# Altium footprint library Buttons.PcbLib: 37 footprints (part 2 of 3)
Each footprint in its own frame and in the unit in brackets; x right, y up, seen from the top. Pads: shape width x height; smd on the part's side, far side on the other; paste and mask are expansions set on the pad; w line width, h text height; cw(c..) or ccw(c..) is an arc to the next point about the centre after c.
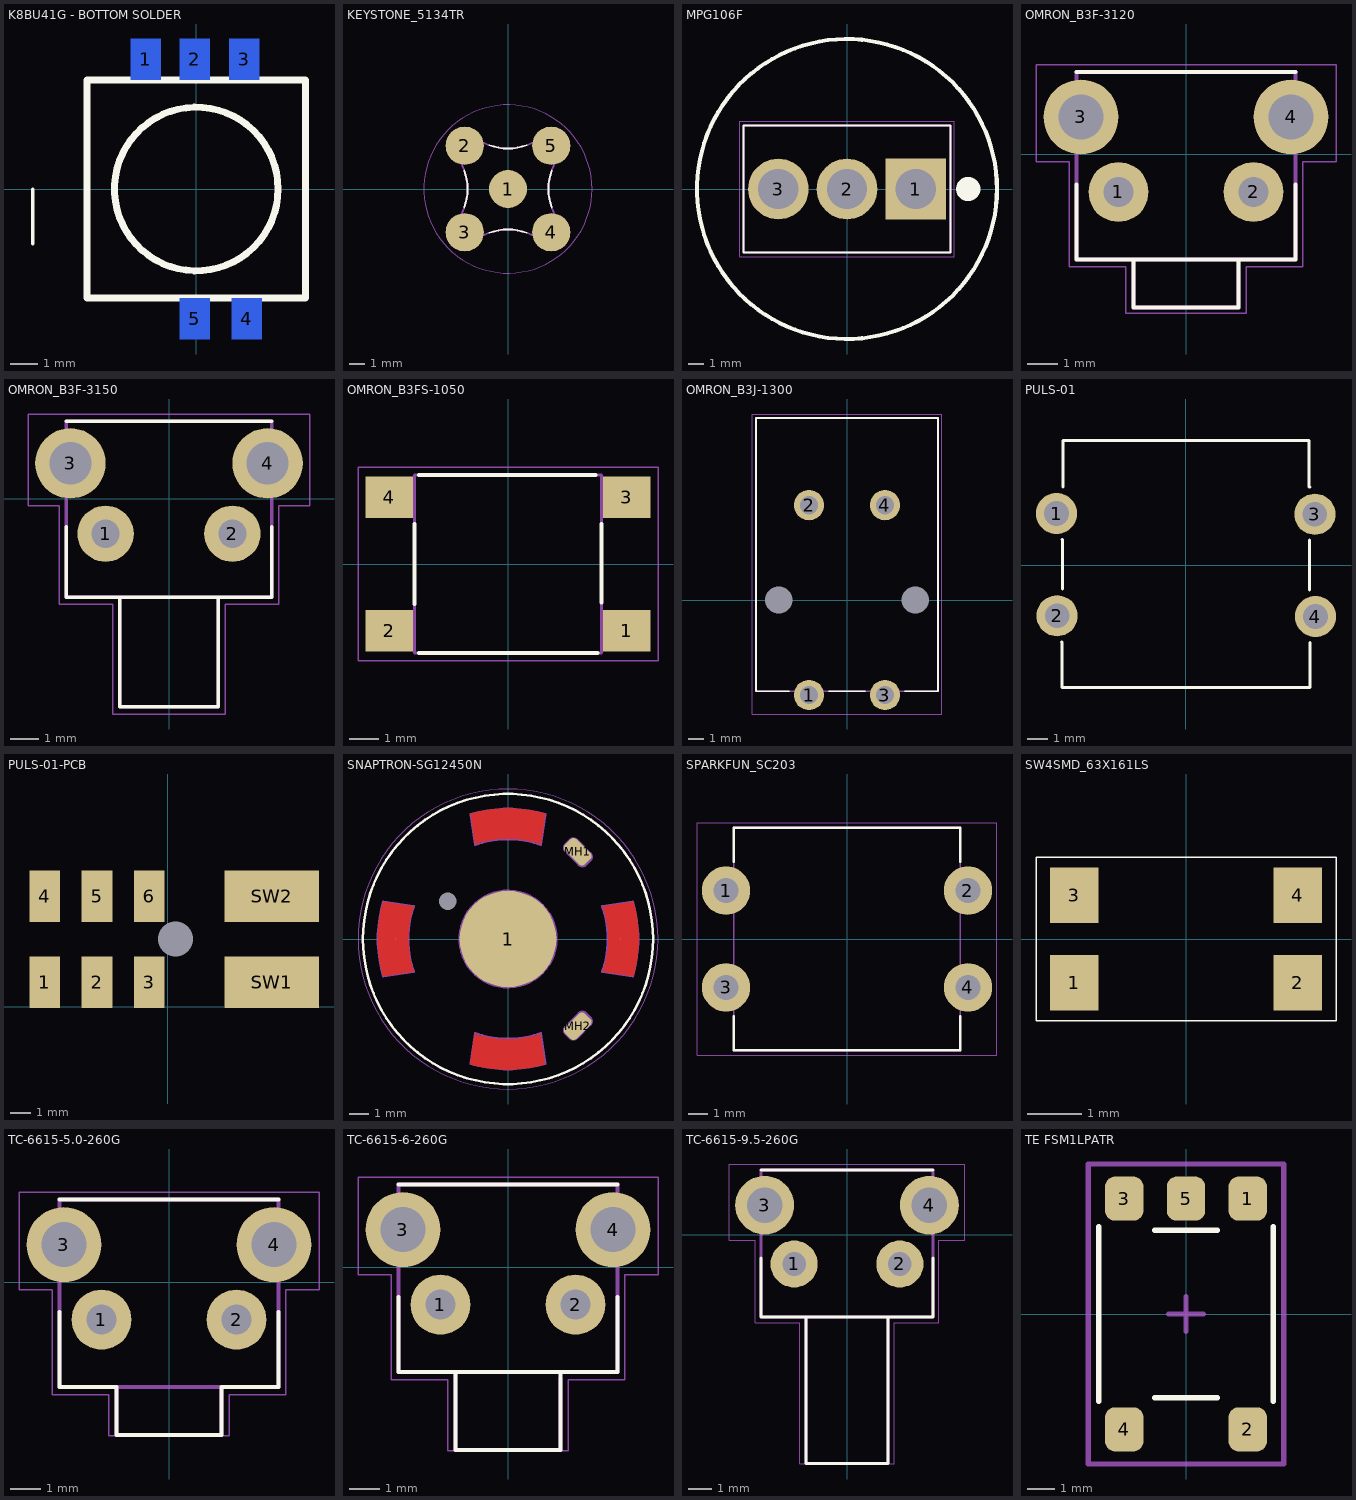
[diagram p1: the footprints below, top view; thin cyan lines are the x and y axes]

## K8BU41G - BOTTOM SOLDER [mm]
pads (5):
  rect 1.1x1.5 smd far side: 1(-1.85,4.75) 2(-0.05,4.75) 3(1.75,4.75) 4(1.85,-4.75) 5(-0.05,-4.75)
Top Overlay:
  circle w0.254: c0,0 r3
  lines w0.127: -6,-2 -6,0
  lines w0.254: -4,-4 -4,0 -4,4 4,4 4,-4 -4,-4
3D body: height 9.23, standoff -7.3, extent -4,-4 -4,-4
3D body: height 9.23, standoff -7.3, extent -1,-1 -1,-1
3D body "K8BU41GLFS.stp": height 4.19, standoff -1.92, extent -4.2,-5.408 4.2,5.408

## KEYSTONE_5134TR [mm] "SWITCH TACT SPST-NO 0.012A 24V, 7.00mm x 7.00mm"
pads (5):
  round 2.5 smd paste-2 mask+0.05: 1(0,0) 2(-2.828,2.828) 3(-2.828,-2.828) 4(2.828,-2.828) 5(2.828,2.828)
Top Overlay:
  lines w0.127: -2.859,-1.221 ccw(c-6.215,0) -2.859,1.221 ; -1.221,-2.859 cw(c0,-6.215) 1.221,-2.859 ; -1.221,2.859 ccw(c0,6.215) 1.221,2.859 ; 2.859,-1.221 cw(c6.215,0) 2.859,1.221
Mechanical 13:
  lines w0.127: -3.486,-2.344 ccw(c0.022,0.022) -2.344,-3.486 ; -3.486,2.344 cw(c0.022,-0.022) -2.344,3.486 ; -3.482,-2.301 ccw(c-6.224,0) -3.482,2.301 ; -2.301,-3.482 cw(c0,-6.224) 2.301,-3.482 ; -2.301,3.482 ccw(c0,6.224) 2.301,3.482 ; 2.344,-3.486 ccw(c-0.022,0.022) 3.486,-2.344 ; 2.344,3.486 cw(c-0.022,-0.022) 3.486,2.344 ; 3.482,-2.301 cw(c6.224,0) 3.482,2.301
Mechanical 15:
  circle w0.05: c0,0 r5.5
3D body "step_temp.STEP": height 0.51, standoff 0, extent -3.505,-3.505 3.505,3.505

## MPG106F [mil]
pads (3):
  rect 150x150 hole 100: 1(170,0)
  round 150 hole 100: 2(0,0) 3(-170,0)
Top Overlay:
  circle w30: c300,0 r15
  circle w10: c0,0 r371.21
  lines w5: -256,-157.5 -256,157.5 256,157.5 256,-157.5 -256,-157.5
Mechanical 4:
  circle w30: c172.05,0 r15
  circle w30: c172.05,0 r15
  lines w5: -256,-157.5 -256,157.5 ; -256,-157.5 256,-157.5 ; -256,-157.5 -256,157.5 ; -256,-157.5 256,-157.5 ; -256,157.5 256,157.5 ; -256,157.5 256,157.5 ; 256,-157.5 256,157.5 ; 256,-157.5 256,157.5
Mechanical 16:
  lines w1.97: -265.84,-167.34 265.84,-167.34 265.84,167.34 -265.84,167.34 -265.84,-167.34
3D body "c-5-1437567-0-d-3d.stp": height 1268.5, standoff -106.5, extent -355.5,-355.47 375.5,355.49

## OMRON_B3F-3120 [mm] "SWITCH TACTILE SPST-NO 0.05A 24V"
pads (4):
  round 2 hole 1: 1(-2.25,-1.25) 2(2.25,-1.25)
  round 2.5 hole 1.5: 3(-3.5,1.25) 4(3.5,1.25)
Top Overlay:
  lines w0.127: -3.65,-1 -3.65,-3.5 -1.75,-3.5 ; -3.65,2.75 3.65,2.75 ; 3.65,-1 3.65,-3.5 1.75,-3.5 ; -1.75,-3.5 1.75,-3.5 ; -1.75,-3.5 -1.75,-5.1 1.75,-5.1 1.75,-3.5
Mechanical 13:
  lines w0.127: -1.75,-3.5 1.75,-3.5 ; -1.75,-3.5 -3.65,-3.5 -3.65,2.75 3.65,2.75 3.65,-3.5 1.75,-3.5 ; -1.75,-3.5 -1.75,-5.1 1.75,-5.1 1.75,-3.5
Mechanical 15:
  lines w0.05: -5,-0.25 -3.9,-0.25 -3.9,-3.75 -2,-3.75 -2,-5.3 2,-5.3 2,-3.75 3.9,-3.75 3.9,-0.25 5,-0.25 5,3 -5,3 -5,-0.25
3D body "B3F_3120.step": height 7.4, standoff -3.5, extent -4.35,-5.1 4.35,2.75

## OMRON_B3F-3150 [mm] "SWITCH TACTILE SPST-NO 0.05A 24V"
pads (4):
  round 2 hole 1: 1(-2.25,-1.25) 2(2.25,-1.25)
  round 2.5 hole 1.5: 3(-3.5,1.25) 4(3.5,1.25)
Top Overlay:
  lines w0.127: -3.65,-1 -3.65,-3.5 -1.75,-3.5 ; -3.65,2.75 3.65,2.75 ; 3.65,-1 3.65,-3.5 1.75,-3.5 ; -1.75,-3.5 1.75,-3.5 ; -1.75,-3.5 -1.75,-7.4 1.75,-7.4 1.75,-3.5
Mechanical 13:
  lines w0.127: -1.75,-3.5 1.75,-3.5 ; -1.75,-3.5 -3.65,-3.5 -3.65,2.75 3.65,2.75 3.65,-3.5 1.75,-3.5 ; -1.75,-3.5 -1.75,-7.4 1.75,-7.4 1.75,-3.5
Mechanical 15:
  lines w0.05: -5,-0.25 -3.9,-0.25 -3.9,-3.75 -2,-3.75 -2,-7.65 2,-7.65 2,-3.75 3.9,-3.75 3.9,-0.25 5,-0.25 5,3 -5,3 -5,-0.25
3D body "b3f-3150.stp": height 7.5, standoff -3.4, extent -4.35,-7.4 4.35,2.75

## OMRON_B3FS-1050 [mm] "SWITCH TACTILE SPST-NO 0.05A 24V"
pads (4):
  rect 1.6x1.4 smd mask+0.05: 1(4,-2.25) 2(-4,-2.25) 3(4,2.25) 4(-4,2.25)
Top Overlay:
  lines w0.127: -3.15,-1.35 -3.15,1.35 ; -3,-3 3.025,-3 ; -3,3 2.95,3 ; 3.15,-1.3 3.15,1.35
Mechanical 1:
  lines w0.1: -3.15,-3 -3.15,3 3.15,3 3.15,-3 -3.15,-3
Mechanical 15:
  lines w0.05: -5.05,-3.25 -5.05,3.25 5.05,3.25 5.05,-3.25 -5.05,-3.25
3D body "b3fs-1050.stp": height -0.4, standoff -7.7, extent -4,-3.25 4,3.05

## OMRON_B3J-1300 [mm]
pads (6):
  round 2 hole 1.2 mask+0.14: 1(-2.5,-6.25) 2(-2.5,6.25) 3(2.5,-6.25) 4(2.5,6.25)
  round 0 hole 1.8 unplated mask+0.14: MH(-4.5,0) MH(4.5,0)
Top Overlay:
  lines w0.127: -3.8,-6 -6,-6 -6,12 6,12 6,-6 3.8,-6 ; -1.2,-6 1.2,-6
Mechanical 1:
  lines w0.1: -6,-6 6,-6 6,12 -6,12 -6,-6
Mechanical 15:
  lines w0.05: -6.25,-7.5 -6.25,12.25 6.25,12.25 6.25,-7.5 -6.25,-7.5
3D body "b3j-1300.stp": height 10.3, standoff -3.5, extent -6,-6.9 6,12

## PULS-01 [mm]
pads (4):
  round 2 hole 1.2: 1(-6.274,2.5) 2(-6.248,-2.464) 3(6.26,2.464) 4(6.286,-2.5)
Top Overlay:
  lines w0.15: -6.045,-3.734 -6.02,-3.734 -6.02,-5.944 6.02,-5.944 6.02,-3.759 ; -6.02,1.245 -5.994,1.245 -5.994,-1.168 ; -5.969,3.785 -5.969,6.045 5.969,6.045 5.969,3.785 6.02,3.785 ; 5.994,-1.219 5.994,1.219
3D body: height 2, standoff -4, extent -6.439,2.045 -6.058,2.934
3D body: height 2, standoff -4, extent -6.439,-2.908 -6.058,-2.019
3D body: height 2, standoff -4, extent 6.095,-2.944 6.476,-2.055
3D body: height 2, standoff -4, extent 6.095,2.009 6.476,2.898
3D body: height 12.3, standoff 6.6, extent -5.744,-5.747 5.756,5.747
3D body: height 8.08, standoff 6.6, extent -6.5,-6.5 6.5,6.5
3D body: height 7.5, standoff 0, extent -1.488,-1.497 1.5,1.497
3D body: height 7.5, standoff 5.8, extent -1.65,-1.647 1.65,1.647
3D body: height 4, standoff 3.5, extent -3.55,-3.547 3.55,3.547
3D body: height 3.5, standoff 0, extent -5.969,-5.969 5.969,6.096
3D body: height 3.6, standoff 0.1, extent -5.521,-5.619 5.533,5.619
3D body: height 3.8, standoff 0, extent 3.949,4.073 4.945,5.071
3D body: height 3.8, standoff 0, extent -4.814,4.073 -3.818,5.071
3D body: height 3.8, standoff 0, extent -4.814,-5.071 -3.818,-4.073
3D body: height 3.8, standoff 0, extent 3.949,-5.071 4.945,-4.073

## PULS-01-PCB [mil]
pads (9):
  rect 0x0 hole 66.93 square unplated: 0(15,130)
  rect 59.06x98.43 smd: 1(-235,47) 2(-135,47) 3(-35,47) 4(-235,212) 5(-135,212) 6(-35,212)
  rect 181.1x98.43 smd mask+5.51: SW1(199,47) SW2(199,212)
3D body "TARJETA SWITCH.step": height 740.37, standoff -62.5, extent -274,-385.87 300,255.87

## SNAPTRON-SG12450N [mm]
pads (8):
  round 4.93 smd paste-4.93 mask+4.8: 1(0,0)
  round 0.025 smd paste-100: 2(0,5.75) 3(5.75,0) 4(-0.025,-5.75) 5(-5.724,0)
  round 0 hole 0.89 unplated: 36(-3.075,1.925)
  rrect50% 1.43x0.81 smd rot 135 paste-2539.97: MH1(3.556,4.445)
  rrect50% 1.43x0.81 smd rot 45 paste-2539.97: MH2(3.556,-4.445)
Top Layer:
  region: -1.908,6.381 -1.664,4.839 -1.53,4.883 -1.258,4.961 -0.982,5.023 -0.704,5.07 -0.423,5.101 -0.141,5.117 0.141,5.117 0.423,5.101 0.704,5.07 0.982,5.023 1.258,4.961 1.53,4.883 1.664,4.839 1.908,6.381 1.753,6.427 1.44,6.505 1.124,6.567 0.805,6.614 0.484,6.645 0.161,6.661 -0.161,6.661 -0.484,6.645 -0.805,6.614 -1.124,6.567 -1.44,6.505 -1.753,6.427
  region: 6.381,1.908 4.839,1.664 4.883,1.53 4.961,1.258 5.023,0.982 5.07,0.704 5.101,0.423 5.117,0.141 5.117,-0.141 5.101,-0.423 5.07,-0.704 5.023,-0.982 4.961,-1.258 4.883,-1.53 4.839,-1.664 6.381,-1.908 6.427,-1.753 6.505,-1.44 6.567,-1.124 6.614,-0.805 6.645,-0.484 6.661,-0.161 6.661,0.161 6.645,0.484 6.614,0.805 6.567,1.124 6.505,1.44 6.427,1.753
  region: 1.883,-6.381 1.639,-4.839 1.505,-4.883 1.233,-4.961 0.957,-5.023 0.679,-5.07 0.398,-5.101 0.116,-5.117 -0.166,-5.117 -0.448,-5.101 -0.729,-5.07 -1.007,-5.023 -1.283,-4.961 -1.555,-4.883 -1.689,-4.839 -1.933,-6.381 -1.778,-6.427 -1.465,-6.505 -1.149,-6.567 -0.83,-6.614 -0.509,-6.645 -0.186,-6.661 0.136,-6.661 0.459,-6.645 0.78,-6.614 1.099,-6.567 1.415,-6.505 1.728,-6.427
  region: -6.354,-1.908 -4.813,-1.664 -4.857,-1.53 -4.934,-1.258 -4.996,-0.982 -5.043,-0.704 -5.074,-0.423 -5.09,-0.141 -5.09,0.141 -5.074,0.423 -5.043,0.704 -4.996,0.982 -4.934,1.258 -4.857,1.53 -4.813,1.664 -6.354,1.908 -6.401,1.753 -6.478,1.44 -6.541,1.124 -6.587,0.805 -6.619,0.484 -6.634,0.161 -6.634,-0.161 -6.619,-0.484 -6.587,-0.805 -6.541,-1.124 -6.478,-1.44 -6.401,-1.753
Top Overlay:
  circle w0.127: c0,0 r7.4
Top Paste:
  circle w0.28: c3.556,4.445 r0.14
  circle w0.28: c3.556,-4.445 r0.14
Mechanical 15:
  circle w0.05: c0,0 r7.65
Mechanical 16:
  circle w0.13: c3.556,4.445 r0.279
  circle w0.13: c3.556,-4.445 r0.279
  circle w0.13: c0,-1.714 r0.445
  circle w0.13: c0,0 r2.464
  lines w0.13: -6.354,-1.908 cw(c0,0) -6.354,1.908 -4.813,1.664 ccw(c0,0) -4.813,-1.664 -6.354,-1.908 ; -1.908,-6.354 ccw(c0,0) 1.908,-6.354 1.664,-4.813 cw(c0,0) -1.664,-4.813 -1.908,-6.354 ; -1.908,6.354 cw(c0,0) 1.908,6.354 1.664,4.813 ccw(c0,0) -1.664,4.813 -1.908,6.354 ; 2.941,-4.829 cw(c3.117,-4.652) 2.941,-4.476 3.621,-3.796 cw(c3.797,-3.972) 3.974,-3.796 4.193,-4.015 cw(c4.016,-4.191) 4.193,-4.367 3.512,-5.048 cw(c3.336,-4.871) 3.16,-5.048 2.941,-4.829 ; 2.941,4.476 cw(c3.117,4.652) 2.941,4.829 3.16,5.048 cw(c3.336,4.871) 3.512,5.048 4.193,4.367 cw(c4.016,4.191) 4.193,4.015 3.974,3.796 cw(c3.797,3.972) 3.621,3.796 2.941,4.476 ; 4.813,-1.664 ccw(c0,0) 4.813,1.664 6.354,1.908 cw(c0,0) 6.354,-1.908 4.813,-1.664
3D body "DOME-SG12450N.STEP": height 0.71, standoff 0, extent -7.111,-7.784 8.455,7.783

## SPARKFUN_SC203 [mm]
pads (4):
  round 2.5 hole 1.3: 1(-6.25,2.5) 2(6.25,2.5) 3(-6.25,-2.5) 4(6.25,-2.5)
Top Overlay:
  lines w0.127: -5.85,-4 -5.85,-5.75 5.85,-5.75 5.85,-4 ; -5.85,4 -5.85,5.75 5.85,5.75 5.85,4
Mechanical 1:
  lines w0.1: -5.85,-5.75 -5.85,5.75 5.85,5.75 5.85,-5.75 -5.85,-5.75
Mechanical 15:
  lines w0.05: -7.75,-6 -7.75,6 7.75,6 7.75,-6 -7.75,-6
3D body "button.STEP": height 12.57, standoff -2.13, extent -6.851,-6.414 6.736,6.386

## SW4SMD_63X161LS [mil] "SW4SMD_63X161LS"
pads (4):
  rect 35x40 smd mask+2: 1(-80.71,-31.5) 2(80.71,-31.5) 3(-80.71,31.5) 4(80.71,31.5)
Top Overlay:
  lines w1: -108.27,-59.06 108.27,-59.06 108.27,59.06 -108.27,59.06 -108.27,-59.06
3D body "User Library-Switch-CK-KMR2.STEP": height 82.68, standoff 0, extent -90.55,-59.05 90.56,59.06

## TC-6615-5.0-260G [mm] "SWITCH TACTILE SPST-NO 0.05A 24V"
pads (4):
  round 2 hole 1: 1(-2.25,-1.25) 2(2.25,-1.25)
  round 2.5 hole 1.5: 3(-3.5,1.25) 4(3.5,1.25)
Top Overlay:
  lines w0.127: -3.65,-1 -3.65,-3.5 -1.75,-3.5 -1.75,-5.1 1.75,-5.1 1.75,-3.5 3.65,-3.5 3.65,-1 ; -3.65,2.75 3.65,2.75
Mechanical 13:
  lines w0.127: -1.75,-3.5 -1.75,-5.1 1.75,-5.1 1.75,-3.5 ; -1.75,-3.5 -3.65,-3.5 -3.65,2.75 3.65,2.75 3.65,-3.5 1.75,-3.5 ; -1.75,-3.5 1.75,-3.5
Mechanical 15:
  lines w0.05: -5,-0.25 -5,3 5,3 5,-0.25 3.9,-0.25 3.9,-3.75 2,-3.75 2,-5.125 -2,-5.125 -2,-3.75 -3.9,-3.75 -3.9,-0.25 -5,-0.25
3D body "B3F_3120.step": height 7.4, standoff -3.5, extent -4.35,-5.1 4.35,2.75

## TC-6615-6-260G [mm] "SWITCH TACTILE SPST 260gf TH R/A 6MM ACTUATOR"
pads (4):
  round 2 hole 1: 1(-2.25,-1.25) 2(2.25,-1.25)
  round 2.5 hole 1.5: 3(-3.5,1.25) 4(3.5,1.25)
Top Overlay:
  lines w0.127: -3.65,-1 -3.65,-3.5 -1.75,-3.5 ; -3.65,2.75 3.65,2.75 ; 3.65,-1 3.65,-3.5 1.75,-3.5 ; -1.75,-3.5 1.75,-3.5 ; -1.75,-3.5 -1.75,-6.1 1.75,-6.1 1.75,-3.5
Mechanical 13:
  lines w0.127: 1.75,-3.725 1.75,-6.1 -1.75,-6.1 -1.75,-3.5 ; -1.75,-3.5 1.75,-3.5 3.65,-3.5 3.65,2.75 -3.65,2.75 -3.65,-3.5 -1.75,-3.5
Mechanical 15:
  lines w0.05: -5,-0.25 -3.9,-0.25 -3.9,-3.75 -2,-3.75 -2,-6.125 2,-6.125 2,-3.75 3.9,-3.75 3.9,-0.25 5,-0.25 5,3 -5,3 -5,-0.25
3D body "KEY-TH_TC-6615-6-160G.step": height 8.1, standoff -2.8, extent -4.3,-6.125 4.296,2.675

## TC-6615-9.5-260G [mm] "SWITCH TACTILE SPST 260gf TH R/A"
pads (4):
  round 2 hole 1: 1(-2.25,-1.25) 2(2.25,-1.25)
  round 2.5 hole 1.5: 3(-3.5,1.25) 4(3.5,1.25)
Top Overlay:
  lines w0.127: -3.65,-1 -3.65,-3.5 -1.75,-3.5 ; -3.65,2.75 3.65,2.75 ; 3.65,-1 3.65,-3.5 1.75,-3.5 ; -1.75,-3.5 1.75,-3.5 ; -1.75,-3.5 -1.75,-9.725 1.75,-9.725 1.75,-3.5
Mechanical 13:
  lines w0.127: -1.75,-3.5 1.75,-3.5 ; -1.75,-3.5 -3.65,-3.5 -3.65,2.75 3.65,2.75 3.65,-3.5 1.75,-3.5 ; -1.75,-3.5 -1.75,-9.725 1.75,-9.725 1.75,-3.5
Mechanical 15:
  lines w0.05: -5,-0.25 -3.9,-0.25 -3.9,-3.75 -2,-3.75 -2,-9.75 2,-9.75 2,-3.75 3.9,-3.75 3.9,-0.25 5,-0.25 5,3 -5,3 -5,-0.25
3D body "SW-TH_4P-L7.5-W9.5-P4.50.step": height 7.2, standoff -3.7, extent -4.175,-9.75 4.178,2.6

## TE FSM1LPATR [mm]
height 3.1
pads (5):
  rrect50% 1.395x1.6 smd: 1(2.25,4.2) 2(2.25,-4.2) 3(-2.25,4.2) 4(-2.25,-4.2) 5(0,4.2)
Top Overlay:
  lines w0.2: -3.175,-3.175 -3.175,3.175 ; -1.143,-3.048 1.143,-3.048 ; -1.143,3.048 1.143,3.048 ; 3.175,-3.175 3.175,3.175
Mechanical 15:
  lines w0.2: -0.635,0 0.635,0 ; 0,-0.635 0,0.635 ; -3.556,-5.461 -3.556,5.461 3.556,5.461 3.556,-5.461 -3.556,-5.461
3D body "FSM1LPATR.STEP": height 3.1, standoff 0, extent -3.1,-4 3.1,4